# Altium schematic symbol library PLD-ALMAX5-5M40Z-SQ65.SchLib: 1 symbol
Pins are listed as number, name and electrical type; pins without a type are passive.

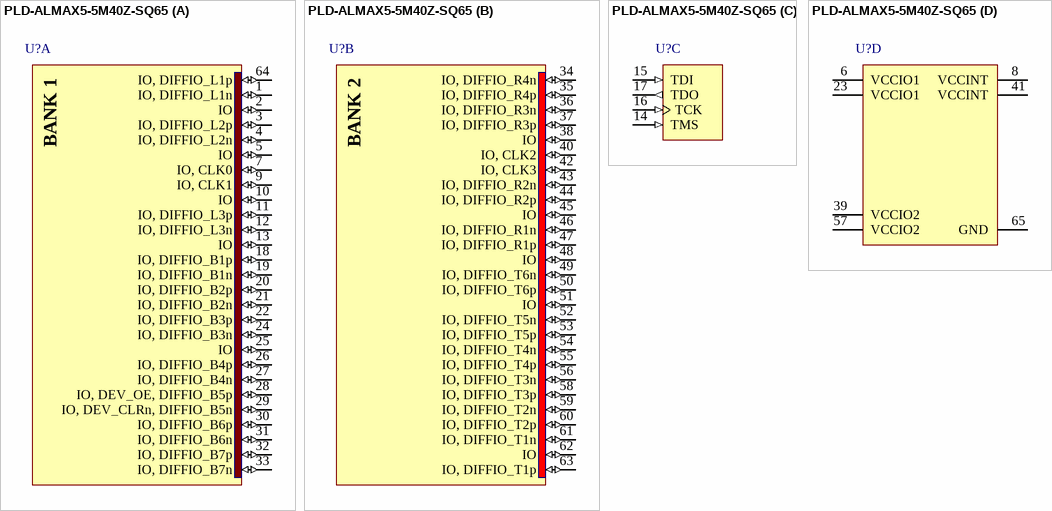
[diagram p0: symbol PLD-ALMAX5-5M40Z-SQ65]

## PLD-ALMAX5-5M40Z-SQ65
designator U?
part A pins: 1 IO, DIFFIO_L1n (io), 2 IO (io), 3 IO, DIFFIO_L2p (io), 4 IO, DIFFIO_L2n (io), 5 IO (io), 7 IO, CLK0 (io), 9 IO, CLK1 (io), 10 IO (io), 11 IO, DIFFIO_L3p (io), 12 IO, DIFFIO_L3n (io), 13 IO (io), 18 IO, DIFFIO_B1p (io), 19 IO, DIFFIO_B1n (io), 20 IO, DIFFIO_B2p (io), 21 IO, DIFFIO_B2n (io), 22 IO, DIFFIO_B3p (io), 24 IO, DIFFIO_B3n (io), 25 IO (io), 26 IO, DIFFIO_B4p (io), 27 IO, DIFFIO_B4n (io), 28 IO, DEV_OE, DIFFIO_B5p (io), 29 IO, DEV_CLRn, DIFFIO_B5n (io), 30 IO, DIFFIO_B6p (io), 31 IO, DIFFIO_B6n (io), 32 IO, DIFFIO_B7p (io), 33 IO, DIFFIO_B7n (io), 64 IO, DIFFIO_L1p (io)
part B pins: 34 IO, DIFFIO_R4n (io), 35 IO, DIFFIO_R4p (io), 36 IO, DIFFIO_R3n (io), 37 IO, DIFFIO_R3p (io), 38 IO (io), 40 IO, CLK2 (io), 42 IO, CLK3 (io), 43 IO, DIFFIO_R2n (io), 44 IO, DIFFIO_R2p (io), 45 IO (io), 46 IO, DIFFIO_R1n (io), 47 IO, DIFFIO_R1p (io), 48 IO (io), 49 IO, DIFFIO_T6n (io), 50 IO, DIFFIO_T6p (io), 51 IO (io), 52 IO, DIFFIO_T5n (io), 53 IO, DIFFIO_T5p (io), 54 IO, DIFFIO_T4n (io), 55 IO, DIFFIO_T4p (io), 56 IO, DIFFIO_T3n (io), 58 IO, DIFFIO_T3p (io), 59 IO, DIFFIO_T2n (io), 60 IO, DIFFIO_T2p (io), 61 IO, DIFFIO_T1n (io), 62 IO (io), 63 IO, DIFFIO_T1p (io)
part C pins: 14 TMS (in), 15 TDI (in), 16 TCK (in), 17 TDO (out)
part D pins: 6 VCCIO1 (power), 8 VCCINT (power), 23 VCCIO1 (power), 39 VCCIO2 (power), 41 VCCINT (power), 57 VCCIO2 (power), 65 GND (power)
part A text: BANK 1
part B text: BANK 2